# Altium schematic symbol library BioTempSchLib.SchLib: 4 symbols
Pins are listed as number, name and electrical type; pins without a type are passive.

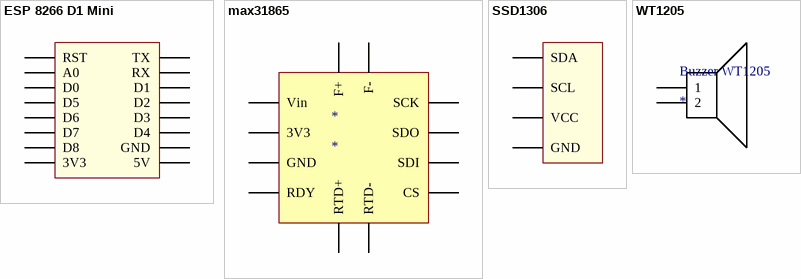
[diagram p0: symbols ESP 8266 D1 Mini to WT1205]

## ESP 8266 D1 Mini
designator *  (value not drawn)
WEMOS ESP 8266 D1 Module
footprint ESP8266 Mini (ESP8266 D1 Mini Module)
pins: 0 RST, 1 A0, 2 D0, 3 D5, 4 D6, 5 D7, 6 D8, 7 3V3, 8 5V, 9 GND, 10 D4, 11 D3, 12 D2, 13 D1, 14 RX, 15 TX

## max31865
designator *
footprint max31865 (Adafriut max31865 RTD amplifier)
pins: 1 Vin, 2 GND, 3 3V3, 4 SCK, 5 SDO, 6 SDI, 7 CS, 8 RDY, 9 RTD+, 10 RTD-, 11 F+, 12 F-

## SSD1306
designator *  (value not drawn)
SSD1306 OLED Display 1280x64
footprint SSD1306
pins: 0 GND, 1 VCC, 2 SCL, 3 SDA

## WT1205
designator Buzzer WT1205
Buzzer WT1205 87dB 5V
footprint WT1205 (Buzzer WT1205)
pins: 1, 2